# Altium schematic symbol library TDA7255V.SchLib: 1 symbol
Pins are listed as number, name and electrical type; pins without a type are passive.

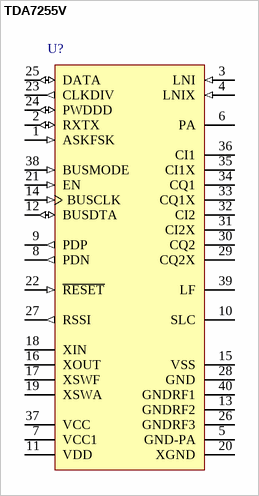
[diagram p0: symbol TDA7255V]

## TDA7255V
designator U?
434 MHz ASK / FSK Wireless Transceiver, -40 to 85 degC, PG-VQFN-40, Green; Manufacturer: Infineon; PartNumber: TDA7255V; Channel Requirements per Band: Single Channel; Frequency Band: 434 MHz; Green: yes; Transmit Power (at 3V): 9 dBm; DatasheetVersion: Rev. 1.1; PackageReference: PG-VQFN-40; PackageDescription: 40-Pin Plastic (Green) Very Thin Profile Quad Flat Non Leaded Package, 5.5 x 6.5 mm Body, 0.5 mm Pitch; Supplier 1: Digi-Key; Supplier Part Number 1: TDA7255V-ND; Supplier 2: Mouser; Supplier Part Number 2: 726-TDA7255V; Group: Transceiver; Halogen-free: yes; Modulation Type: ASK / FSK; Mounting Technology: Surface Mount; ComponentLink1Description: Manufacturer URL; ComponentLink1URL: http://www.infineon.com/; ComponentLink2Description: Datasheet; ComponentLink2URL: http://www.infineon.com/dgdl/TDA7255V_DS_V1.1.pdf?folderId=db3a3043191a246301192dd3ee2c2ae4&fileId=db3a30432a7fedfc012a84f991c92c1a; ComponentLink3Description: Package Specification; ComponentLink3URL: http://www.infineon.com/dgdl/PG-VQFN-40-1%2C-8%2C-11-Package_Overview.pdf?folderId=db3a30431936bc4b01197ad887a81176&fileId=db3a30431936bc4b01197ae90bf0118f
footprint INF-PG-VQFN-40_N (QFN, 40-Leads, Body 6.5x5.5 mm, Pitch 0.5 mm, IPC Medium Density)
footprint INF-PG-VQFN-40_L (QFN, 40-Leads, Body 6.5x5.5 mm, Pitch 0.5 mm, IPC High Density)
footprint INF-PG-VQFN-40_M (QFN, 40-Leads, Body 6.5x5.5 mm, Pitch 0.5 mm, IPC Low Density)
pins: 1 ASKFSK (in) "ASK/FSK-Mode Switch Input High = ASK Low = FSK", 2 RXTX (io) "RX/TX-Mode Switch Input/Output High = RX Low = TX", 3 LNI (in) "RF Input to Differential Low Noise Amplifier (LNA)", 4 LNIX (in) "Complementary RF Input to Differential LNA", 5 GND-PA (power) "Ground Return for Power Amplifier (PA) Driver Stage", 6 PA (oc) "PA Output Stage", 7 VCC1 (power) "Supply for LNA and PA", 8 PDN (out) "Output of the Negative Peak Detector", 9 PDP (out) "Output of the Positive Peak Detector", 10 SLC "Slicer Level for the Data Slicer", 11 VDD (power) "Digital Supply A 10 ohm serial resistor in the VDD supply line is strongly recommended", 12 BUSDTA (io) "Bus Data In/Output", 13 GNDRF2 (power) "Ground Return for RF Except PA", 14 BUSCLK (in) "Bus Clock Input", 15 VSS (power) "Ground for Digital Section", 16 XOUT "Crystal Oscillator Output Can also be used as external reference frequency input", 17 XSWF "FSK Modulation Switch", 18 XIN "Ground for Digital Section", 19 XSWA "ASK Modulation/FSK Center Frequency Switch", 20 XGND (power) "Crystal Oscillator Ground Return", 21 EN (in) "3-Wire Bus Enable Input, Active Low", 22 ~{RESET} (in) "Reset of the Entire System (to Default Values) Active Low", 23 CLKDIV (out) "Clock Output", 24 PWDDD (io) "Power Down Input (Active High), Data Detect Output (Active Low)", 25 DATA (io) "TX Data Input, RX Data Output (RX Powerdown: Pin 25 @ GND)", 26 GNDRF3 (power) "Ground Return for RF except PA", 27 RSSI (out) "RSSI Output", 28 GND (power) "Analog Ground", 29 CQ2X "Pin for External Capacitor Q-channel, stage 2", 30 CQ2 "Pin for External Capacitor Q-channel, stage 2", 31 CI2X "Pin for External Capacitor I-channel, stage 2", 32 CI2 "Pin for External Capacitor I-channel, stage 2", 33 CQ1X "Pin for External Capacitor Q-channel, stage 1", 34 CQ1 "Pin for External Capacitor Q-channel, stage 1", 35 CI1X "Pin for External Capacitor I-channel, stage 1", 36 CI1 "Pin for External Capacitor I-channel, stage 1", 37 VCC (power) "Analog Supply Antiparallel diodes between VCC, VCC1, VDD", 38 BUSMODE (in) "Bus Mode Selection I2C/3 wire bus mode selection", 39 LF "Loop Filter and VCO Control Voltage", 40 GNDRF1 (power) "Ground Return for LNA"